# EAGLE library part MINIFIT_JR_5566-10 (library Display_Custom)
Molex Minifit JR 5566-10 Vertical 10 position headder https://www.molex.com/pdm_docs/sd/039293026_sd.pdf
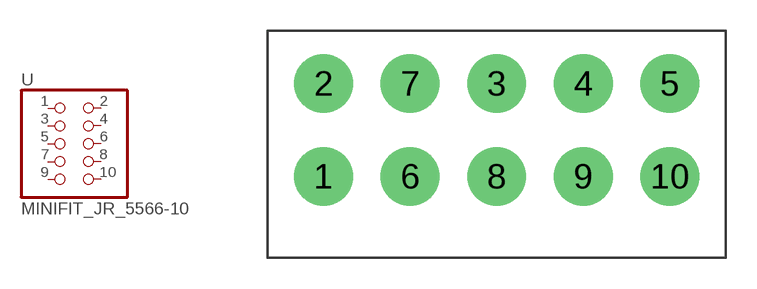
[diagram p7: symbol with the pads of MINIFIT_JR_5566-10; footprint MINIFIT_JR_5566-10]

Designator prefix -

## MINIFIT_JR_5566-10  [MINIFIT_JR_5566-10]
1  1  pas
2  2  pas
3  3  pas
4  4  pas
5  5  pas
6  6  pas
7  7  pas
8  8  pas
9  9  pas
10  10  pas

## Footprint MINIFIT_JR_5566-10 (pad centres in mm)
MOLEX Minifit JR Connector 5566-10 https://www.molex.com/pdm_docs/sd/039293026_sd.pdf
drill 1.9: 1 -8.4,-2.25; 2 -8.4,2.25; 3 0,2.25; 4 4.2,2.25; 5 8.4,2.25; 6 -4.2,-2.25; 7 -4.2,2.25; 8 0,-2.25; 9 4.2,-2.25; 10 8.4,-2.25